# Altium footprint library HDMI_TypeD.PcbLib: 3 footprints
Each footprint in its own frame and in the unit in brackets; x right, y up, seen from the top. Pads: shape width x height; smd on the part's side, far side on the other; paste and mask are expansions set on the pad; w line width, h text height; cw(c..) or ccw(c..) is an arc to the next point about the centre after c.
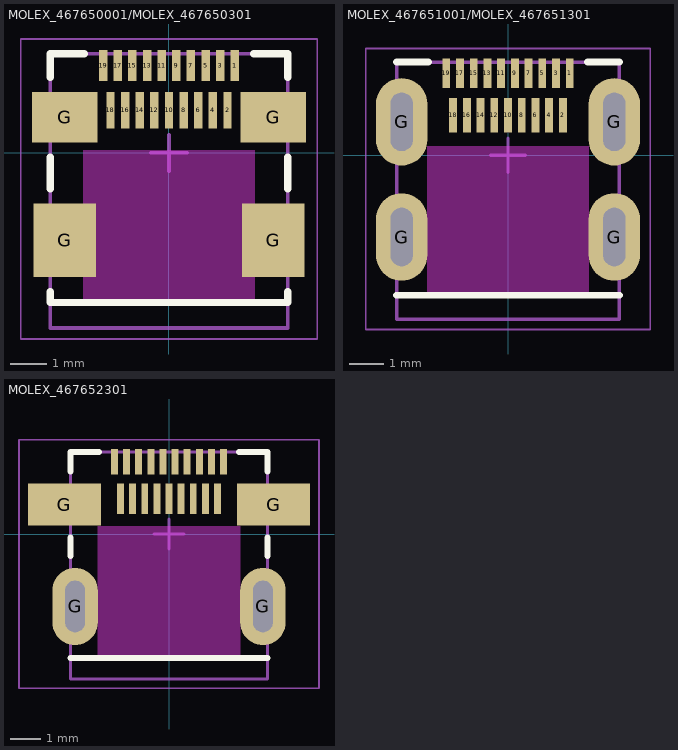
[diagram p0: the footprints below, top view; thin cyan lines are the x and y axes]

## MOLEX_467650001/MOLEX_467650301 [mm]
height 3.05
pads (23):
  rect 0.23x0.85 smd mask+0.05: 1(1.8,2.388) 3(1.4,2.388) 5(1,2.388) 7(0.6,2.388) 9(0.2,2.388) 11(-0.2,2.388) 13(-0.6,2.388) 15(-1,2.388) 17(-1.4,2.388) 19(-1.8,2.388)
  rect 0.23x1 smd mask+0.05: 2(1.6,1.163) 4(1.2,1.163) 6(0.8,1.163) 8(0.4,1.163) 10(0,1.163) 12(-0.4,1.163) 14(-0.8,1.163) 16(-1.2,1.163) 18(-1.6,1.163)
  rect 1.7x2 smd mask+0.05: G(-2.85,-2.387) G(2.85,-2.387)
  rect 1.8x1.38 smd mask+0.05: G(-2.85,0.973) G(2.85,0.973)
Top Overlay:
  lines w0.2: -3.25,-3.787 -3.25,-4.087 3.25,-4.087 3.25,-3.787 ; -3.25,-0.987 -3.25,-0.117 ; -3.25,2.063 -3.25,2.713 -2.315,2.713 ; 2.315,2.713 3.25,2.713 3.25,2.063 ; 3.25,-0.987 3.25,-0.117
Keep-Out Layer:
  region: 2.35,-1.387 2,-1.387 2,-3.387 2.35,-3.387 2.35,-4.087 -2.35,-4.087 -2.35,-3.387 -2,-3.387 -2,-1.387 -2.35,-1.387 -2.35,0.073 2.35,0.073
Top Assembly:
  lines w0.1: -3.25,-4.087 -3.25,2.713 3.25,2.713 3.25,-4.087 -3.25,-4.087
  text ".Designator" at -2.253,-0.226 h1
Top Courtyard:
  lines w0.05: -4.05,-5.087 -4.05,3.113 4.05,3.113 4.05,-5.087 -4.05,-5.087
  lines w0.1: -0.5,0 0.5,0 ; 0,-0.5 0,0.5
Assembly Notes:
  lines w0.1: -3.25,-4.787 3.25,-4.787 3.25,-4.087 -3.25,-4.087 -3.25,-4.787
  text "PCB Edge" at 1.066,-3.905 h0.51
3D body "467650001.stp": height 2.97, standoff 0, extent -3.25,-4.787 3.25,2.713

## MOLEX_467651001/MOLEX_467651301 [mm]
height 3.05
pads (23):
  rect 0.23x0.85 smd mask+0.05: 1(1.8,2.388) 3(1.4,2.388) 5(1,2.388) 7(0.6,2.388) 9(0.2,2.388) 11(-0.2,2.388) 13(-0.6,2.388) 15(-1,2.388) 17(-1.4,2.388) 19(-1.8,2.388)
  rect 0.23x1 smd mask+0.05: 2(1.6,1.163) 4(1.2,1.163) 6(0.8,1.163) 8(0.4,1.163) 10(0,1.163) 12(-0.4,1.163) 14(-0.8,1.163) 16(-1.2,1.163) 18(-1.6,1.163)
  oval 1.5x2.55 hole 0.65 slot 1.7 at 90 deg mask+0.05: G(-3.1,-2.387) G(-3.1,0.973) G(3.1,-2.387) G(3.1,0.973)
Top Overlay:
  lines w0.2: -3.25,-4.087 3.25,-4.087 ; -3.25,2.713 -2.315,2.713 ; 2.315,2.713 3.25,2.713
Keep-Out Layer:
  region: 2.35,-4.087 -2.35,-4.087 -2.35,0.253 2.35,0.253
Top Assembly:
  lines w0.1: -3.25,-4.087 3.25,-4.087 3.25,2.713 -3.25,2.713 -3.25,-4.087
  text ".Designator" at -2.253,-0.226 h1
Top Courtyard:
  lines w0.05: -4.15,-5.087 4.15,-5.087 4.15,3.113 -4.15,3.113 -4.15,-5.087
  lines w0.1: -0.5,0 0.5,0 ; 0,-0.5 0,0.5
Assembly Notes:
  lines w0.1: -3.25,-4.787 -3.25,-4.087 3.25,-4.087 3.25,-4.787 -3.25,-4.787
  text "PCB Edge" at 1.066,-3.905 h0.51
3D body "467651001.stp": height 2.97, standoff -0.55, extent -3.25,-4.787 3.25,2.713

## MOLEX_467652301 [mm]
height 3.05
pads (23):
  rect 0.23x0.85 smd mask+0.05: 1(1.8,2.388) 3(1.4,2.388) 5(1,2.388) 7(0.6,2.388) 9(0.2,2.388) 11(-0.2,2.388) 13(-0.6,2.388) 15(-1,2.388) 17(-1.4,2.388) 19(-1.8,2.388)
  rect 0.23x1 smd mask+0.05: 2(1.6,1.163) 4(1.2,1.163) 6(0.8,1.163) 8(0.4,1.163) 10(0,1.163) 12(-0.4,1.163) 14(-0.8,1.163) 16(-1.2,1.163) 18(-1.6,1.163)
  rect 2.4x1.38 smd mask+0.05: G(-3.45,0.973) G(3.45,0.973)
  oval 1.5x2.55 hole 0.65 slot 1.7 at 90 deg mask+0.05: G(-3.1,-2.387) G(3.1,-2.387)
Top Overlay:
  lines w0.2: -3.25,-4.087 3.25,-4.087 ; -3.25,-0.722 -3.25,-0.117 ; -3.25,2.063 -3.25,2.713 -2.315,2.713 ; 2.315,2.713 3.25,2.713 3.25,2.063 ; 3.25,-0.722 3.25,-0.117
Keep-Out Layer:
  region: 2.35,-4.087 -2.35,-4.087 -2.35,0.253 2.35,0.253
Top Assembly:
  lines w0.1: -3.25,-4.087 3.25,-4.087 3.25,2.713 -3.25,2.713 -3.25,-4.087
  text ".Designator" at -2.253,-0.226 h1
Top Courtyard:
  lines w0.05: -4.95,-5.087 4.95,-5.087 4.95,3.113 -4.95,3.113 -4.95,-5.087
  lines w0.1: -0.5,0 0.5,0 ; 0,-0.5 0,0.5
Assembly Notes:
  lines w0.1: -3.25,-4.787 -3.25,-4.087 3.25,-4.087 3.25,-4.787 -3.25,-4.787
  text "PCB Edge" at 1.066,-3.905 h0.51
3D body "467652301.stp": height 2.97, standoff -0.55, extent -4.45,-4.787 4.45,2.713